# Altium footprint library CMA-5043&plus_.PcbLib: 3 footprints
Each footprint in its own frame and in the unit in brackets; x right, y up, seen from the top. Pads: shape width x height; smd on the part's side, far side on the other; paste and mask are expansions set on the pad; w line width, h text height; cw(c..) or ccw(c..) is an arc to the next point about the centre after c.
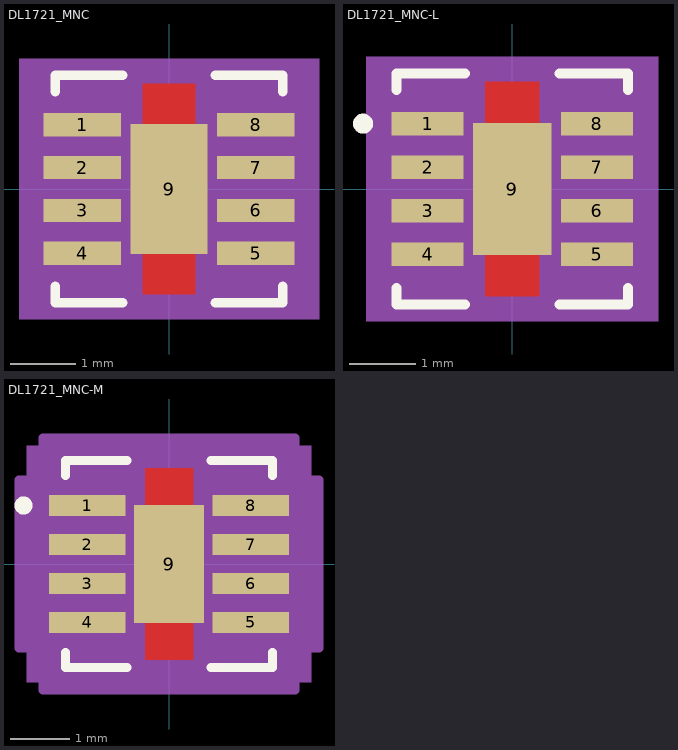
[diagram p0: the footprints below, top view; thin cyan lines are the x and y axes]

## DL1721_MNC [mil]
pads (9):
  rect 47x14 smd paste+0 mask+0: 1(-52.5,39) 2(-52.5,13) 3(-52.5,-13) 4(-52.5,-39) 5(52.5,-39) 6(52.5,-13) 7(52.5,13) 8(52.5,39)
  rect 47x79 smd paste+0 mask+0: 9(0,0)
Top Layer:
  region: 0,39.5 -16,39.5 -16,64 0,64
  region: 0,39.5 16,39.5 16,64 0,64
  region: 0,-39.5 -16,-39.5 -16,-64 0,-64
  region: 0,-39.5 16,-39.5 16,-64 0,-64
Top Overlay:
  lines w6: -69,-59.1 -69,-69 -28.11,-69 ; -69,59.1 -69,69 -28.11,69 ; 28.11,-69 69,-69 69,-59.1 ; 28.11,69 69,69 69,59.1
Top Paste:
  region: 0,39.5 -16,39.5 -16,64 0,64
  region: 0,39.5 16,39.5 16,64 0,64
  region: 0,-39.5 -16,-39.5 -16,-64 0,-64
  region: 0,-39.5 16,-39.5 16,-64 0,-64
Top Solder:
  region: 0,39.5 -16,39.5 -16,64 0,64
  region: 0,39.5 16,39.5 16,64 0,64
  region: 0,-39.5 -16,-39.5 -16,-64 0,-64
  region: 0,-39.5 16,-39.5 16,-64 0,-64
Mechanical 5:
  region: 91,-79 -91,-79 -91,79 91,79
Mechanical 13:
  circle w0: c-29,39 r0
  lines w0: -12,64 ccw(c0,64) 12,64
  lines w1: -64,-64 64,-64 64,64 -64,64 -64,-64
Mechanical 15:
  region: -74,-54 -86,-54 -86,54 -74,54 -74,74 74,74 74,54 86,54 86,-54 74,-54 74,-74 -74,-74
  lines w6: -86,-54 -86,54 -74,54 -74,74 74,74 74,54 86,54 86,-54 74,-54 74,-74 -74,-74 -74,-54 -86,-54
3D body "DL1721_MNC.step": height 45.12, standoff 0, extent -64.02,-64.02 64.02,64.02

## DL1721_MNC-L [mil]
pads (9):
  rect 43x14 smd paste+0 mask+0: 1(-50.5,39) 2(-50.5,13) 3(-50.5,-13) 4(-50.5,-39) 5(50.5,-39) 6(50.5,-13) 7(50.5,13) 8(50.5,39)
  rect 47x79 smd paste+0 mask+0: 9(0,0)
Top Layer:
  region: 0,39.5 -16,39.5 -16,64 0,64
  region: 0,39.5 16,39.5 16,64 0,64
  region: 0,-39.5 -16,-39.5 -16,-64 0,-64
  region: 0,-39.5 16,-39.5 16,-64 0,-64
Top Overlay:
  circle w6: c-89,39 r3
  lines w6: -69,-59.1 -69,-69 -28.11,-69 ; -69,59.1 -69,69 -28.11,69 ; 28.11,-69 69,-69 69,-59.1 ; 28.11,69 69,69 69,59.1
Top Paste:
  region: 0,39.5 -16,39.5 -16,64 0,64
  region: 0,39.5 16,39.5 16,64 0,64
  region: 0,-39.5 -16,-39.5 -16,-64 0,-64
  region: 0,-39.5 16,-39.5 16,-64 0,-64
Top Solder:
  region: 0,39.5 -16,39.5 -16,64 0,64
  region: 0,39.5 16,39.5 16,64 0,64
  region: 0,-39.5 -16,-39.5 -16,-64 0,-64
  region: 0,-39.5 16,-39.5 16,-64 0,-64
Mechanical 5:
  region: 87,-79 -87,-79 -87,79 87,79
Mechanical 13:
  circle w0: c-29,39 r3
  lines w0: -12,64 ccw(c0,64) 12,64
  lines w1: -64,-64 64,-64 64,64 -64,64 -64,-64
Mechanical 15:
  region: -68,-52.8 -76,-52.8 -76,52.8 -68,52.8 -68,68 68,68 68,52.8 76,52.8 76,-52.8 68,-52.8 68,-68 -68,-68
  lines w6: -76,-52.8 -76,52.8 -68,52.8 -68,68 68,68 68,52.8 76,52.8 76,-52.8 68,-52.8 68,-68 -68,-68 -68,-52.8 -76,-52.8
3D body "DL1721_MNC.step": height 45.12, standoff 0, extent -64.02,-64.02 64.02,64.02

## DL1721_MNC-M [mil]
pads (9):
  rect 51x14 smd paste+0 mask+0: 1(-54.5,39) 2(-54.5,13) 3(-54.5,-13) 4(-54.5,-39) 5(54.5,-39) 6(54.5,-13) 7(54.5,13) 8(54.5,39)
  rect 47x79 smd paste+0 mask+0: 9(0,0)
Top Layer:
  region: 0,39.5 -16,39.5 -16,64 0,64
  region: 0,39.5 16,39.5 16,64 0,64
  region: 0,-39.5 -16,-39.5 -16,-64 0,-64
  region: 0,-39.5 16,-39.5 16,-64 0,-64
Top Overlay:
  circle w6: c-97,39 r3
  lines w6: -69,-59.1 -69,-69 -28.11,-69 ; -69,59.1 -69,69 -28.11,69 ; 28.11,-69 69,-69 69,-59.1 ; 28.11,69 69,69 69,59.1
Top Paste:
  region: 0,39.5 -16,39.5 -16,64 0,64
  region: 0,39.5 16,39.5 16,64 0,64
  region: 0,-39.5 -16,-39.5 -16,-64 0,-64
  region: 0,-39.5 16,-39.5 16,-64 0,-64
Top Solder:
  region: 0,39.5 -16,39.5 -16,64 0,64
  region: 0,39.5 16,39.5 16,64 0,64
  region: 0,-39.5 -16,-39.5 -16,-64 0,-64
  region: 0,-39.5 16,-39.5 16,-64 0,-64
Mechanical 5:
  region: 95,-79 -95,-79 -95,79 95,79
Mechanical 13:
  circle w0: c-29,39 r3
  lines w0: -12,64 ccw(c0,64) 12,64
  lines w1: -64,-64 64,-64 64,64 -64,64 -64,-64
Mechanical 15:
  region: -84,-56 -100,-56 -100,56 -84,56 -84,84 84,84 84,56 100,56 100,-56 84,-56 84,-84 -84,-84
  lines w6: -100,-56 -100,56 -84,56 -84,84 84,84 84,56 100,56 100,-56 84,-56 84,-84 -84,-84 -84,-56 -100,-56
3D body "DL1721_MNC.step": height 45.12, standoff 0, extent -64.02,-64.02 64.02,64.02